# Altium integrated library FA-20H_16.0000MF10Z-AJ3.IntLib: 1 symbol
Pins are listed as number, name and electrical type; pins without a type are passive.

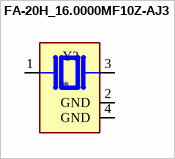
[diagram p0: symbol FA-20H_16.0000MF10Z-AJ3]

## FA-20H_16.0000MF10Z-AJ3
designator Y?
16 MHz ±10ppm Crystal 8pF 80 Ohms 4-SMD, No Lead; MF: EPSON; MP: FA-20H 16.0000MF10Z-AJ3; SnapEDA_Link: https://www.snapeda.com/parts/FA-20H%2016.0000MF10Z-AJ3/EPSON/view-part/?ref=snap; Package: NON STANDARD-4 EPSON; Value: *; Check_prices: https://www.snapeda.com/parts/FA-20H%2016.0000MF10Z-AJ3/EPSON/view-part/?ref=eda
footprint XTAL_FA-20H_16.0000MF10Z-AJ3
pins: 1, 2 GND (power), 3 2, 4 GND (power)